# Altium schematic symbol library OnSemiconductor_Library.SchLib: 10 symbols
Pins are listed as number, name and electrical type; pins without a type are passive.

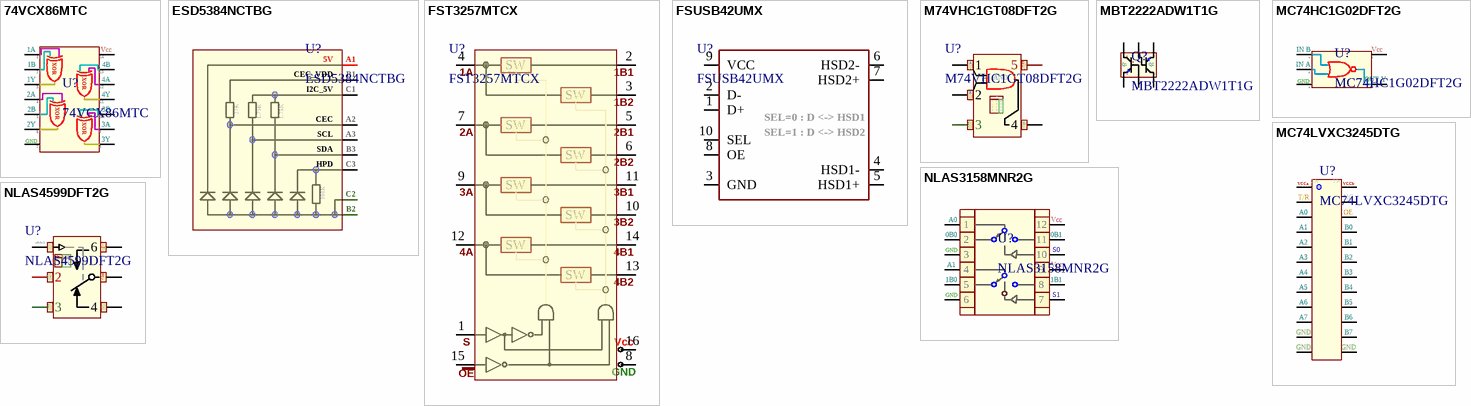
[diagram p0: symbols 74VCX86MTC to NLAS4599DFT2G]

## 74VCX86MTC
designator U?
Logic Gates Quad 2-Input OR Gate; Manufacturer: ON Semiconductor / Fairchild; Logic Family: 74VCX; Logic Type: 2-Input XOR; Number of Gates: 4 Gate; Number of Input Lines: 2 Input; Number of Output Lines: 1 Output; High Level Output Current: - 24 mA; Logic Function: XOR; Low Level Output Current: 24 mA; Operating Supply Voltage: 1.8 V, 2.5 V, 3.3 V; Propagation Delay Time: 7.8 ns; Supply Voltage - Max: 3.6 V; Supply Voltage - Min: 1.2 V; Supplier 1: Mouser; Manufacturer Part Number: 74VCX86MTC; RoHS: RoHS Compliant; Category: Logic Gates; Stock 1: 4884; Pricing 1: 1=0.512, 10=0.418, 100=0.255, 1000=0.197, 2500=0.168, 10000=0.157, 25000=0.150 (USD); Function: Gate; Height: 0.9 mm; Length: 5 mm; Package / Case: TSSOP-14; Packaging: Tube; Product: Single-Function Gate; Series: 74VCX86; Width: 4.4 mm; Brand: ON Semiconductor / Fairchild; Mounting Style: SMD/SMT; Maximum Operating Temperature: + 85 C; Minimum Operating Temperature: - 40 C; Standard Pack Qty: 94; RoHS - Mouser: Y; Minimum Order Quantity: 1; Reeling: False; ComponentLink1URL: http://www.mouser.com/ds/2/308/74VCX86-1118481.pdf; ComponentLink1Description: http://www.mouser.com/ds/2/308/74VCX86-1118481.pdf
pins: 1, 2, 3, 4, 5, 6, 7, 8, 9, 10, 11, 12, 13, 14
text: 1A; Vcc; 1B; 4B; 1Y; 4A; 2A; 4Y; 2B; 3B; 2Y; 3A; 3Y; GND

## ESD5384NCTBG
designator U?
TVS DIODE 3VWM 9WLCSP; Manufacturer: ON Semiconductor; Capacitance: 29pF; Direction: Unidirectional; Number of Unidirectional Channels: 5; Reverse Standoff Voltage: 3V; Min Breakdown Voltage: 6V; Power Line Protection: No; ESD Protection: Yes; Max Reverse Leakage Current: 200nA; Supplier 1: Mouser; Manufacturer Part Number: ESD5384NCTBG; Stock 1: 9540; Pricing 1: 1=0.44, 10=0.362, 50=0.362, 100=0.221, 1000=0.171, 10000=0.136 (USD); Number of Pins: 9; Min Operating Temperature: -30°C; Max Operating Temperature: 85°C; Package Quantity: 5000; Packaging: Tape and Reel; Number of Lines: 5; Length: 1.14mm; Height: 0.63mm; Width: 1.14mm; Depth: 1.14mm; Radiation Hardening: No; Lead Free: Lead Free; Halogen Free: Halogen Free; ComponentLink1URL: https://datasheet.ciiva.com/11195/esd5384-d-11195286.pdf; ComponentLink1Description: https://datasheet.ciiva.com/11195/esd5384-d-11195286.pdf; ComponentLink2URL: https://datasheet.ciiva.com/12545/esd5384-d-119513-12545067.pdf; ComponentLink2Description: https://datasheet.ciiva.com/12545/esd5384-d-119513-12545067.pdf; ComponentLink3URL: https://datasheet.ciiva.com/354/esd5384-d-354168.pdf; ComponentLink3Description: https://datasheet.ciiva.com/354/esd5384-d-354168.pdf
footprint ONSemi CSP-9
pins: A1, A2, A3, B1, B2, B3, C1, C2, C3
text: 5V; CEC_VDD; I2C_5V; 27K; 1.75K; CEC; SCL; SDA; HPD; 100K

## FST3257MTCX
designator U?
MUX/DEMUX QUAD 2:1 TTL 16TSSOP; Manufacturer: ON Semiconductor / Fairchild; Max Supply Voltage: 5.5V; Min Supply Voltage: 3V; Logic Function: Multiplexer,Demultiplexer,Mux,Demux; Propagation Delay: 9.9ns; Number of Input Lines: 8; Number of Output Lines: 4; Number of Elements: 1; Quiescent Current: 3uA; Supply Type: Single; Throw Configuration: SPDT; Supplier 1: Mouser; Manufacturer Part Number: FST3257MTCX; Stock 1: 3360; Pricing 1: 1=0.79, 10=0.651, 50=0.651, 100=0.42, 1000=0.336, 10000=0.273 (USD); Mount: Surface Mount; Case/Package: TSSOP; Number of Pins: 16; Weight: 0.173g; Min Operating Temperature: -40°C; Max Operating Temperature: 85°C; Packaging: Tape and Reel; Package Quantity: 1; Number of Inputs: 8; Number of Outputs: 4; Number of Bits: 8; Turn-On Delay Time: 9.9ns; Number of Circuits: 4; Independent Circuits: 1; Length: 5mm; Height: 0.9mm; Width: 4.4mm; Radiation Hardening: No; Lead Free: Lead Free; ComponentLink1URL: https://datasheet.ciiva.com/3170/fst3257-3170117.pdf; ComponentLink1Description: https://datasheet.ciiva.com/3170/fst3257-3170117.pdf; ComponentLink2URL: https://datasheet.ciiva.com/3169/fst3257-3169255.pdf; ComponentLink2Description: https://datasheet.ciiva.com/3169/fst3257-3169255.pdf; ComponentLink3URL: https://datasheet.ciiva.com/1888/fst3257-1888200.pdf; ComponentLink3Description: https://datasheet.ciiva.com/1888/fst3257-1888200.pdf; ComponentLink4URL: https://datasheet.ciiva.com/16979/fst3257-16979608.pdf; ComponentLink4Description: https://datasheet.ciiva.com/16979/fst3257-16979608.pdf; ComponentLink5URL: https://datasheet.ciiva.com/1888/fst3257-1888201.pdf; ComponentLink5Description: https://datasheet.ciiva.com/1888/fst3257-1888201.pdf; ComponentLink6URL: https://datasheet.ciiva.com/1888/fst3257-1888202.pdf; ComponentLink6Description: https://datasheet.ciiva.com/1888/fst3257-1888202.pdf; ComponentLink7URL: https://datasheet.ciiva.com/26806/getdatasheetpartid-41675-26806668.pdf; ComponentLink7Description: https://datasheet.ciiva.com/26806/getdatasheetpartid-41675-26806668.pdf
footprint TSSOP-16 ONSemi
pins: 1, 2, 3, 4, 5, 6, 7, 8, 9, 10, 11, 12, 13, 14, 15, 16
text: SW; 1A; 1B1; 1B2; 2A; 2B1; 2B2; 3A; 3B1; 3B2; 4A; 4B1; 4B2; S; Vcc; OE; GND

## FSUSB42UMX
designator U?
Analog Switch Single DPDT 10-Pin UMLP EP T/R; Manufacturer: ON Semiconductor / Fairchild; Min Supply Voltage: 3V; Max Supply Voltage: 4.3V; Nominal Supply Current: 1uA; Number of Inputs: 2; Number of Channels: 1; Data Rate: 480Mbps; Output Current: 100mA; Propagation Delay: 0.25ns; Bandwidth: 720MHz; Turn-Off Delay Time: 25ns; On-State Resistance: 6.5R; Turn-On Delay Time: 30ns; Supplier 1: Mouser; Manufacturer Part Number: FSUSB42UMX; Stock 1: 18559; Pricing 1: 1=0.57, 10=0.47, 50=0.47, 100=0.287, 1000=0.222, 10000=0.176 (USD); Mount: Surface Mount; Number of Pins: 10; Weight: 18.08g; Min Operating Temperature: -40°C; Max Operating Temperature: 85°C; Package Quantity: 1; Number of Outputs: 2; Packaging: Tape and Reel; Operating Supply Voltage: 4.3V; Number of Ports: 2; Termination: SMD/SMT; Throw Configuration: DPDT; Supply Type: Single; Length: 1.4mm; Height: 0.5mm; Width: 1.8mm; Radiation Hardening: No; REACH SVHC: No SVHC; Lead Free: Lead Free; ComponentLink1URL: https://datasheet.ciiva.com/15108/getdatasheetpartid-189033-15108996.pdf; ComponentLink1Description: https://datasheet.ciiva.com/15108/getdatasheetpartid-189033-15108996.pdf; ComponentLink2URL: https://datasheet.ciiva.com/1504/1815547-1504946.pdf; ComponentLink2Description: https://datasheet.ciiva.com/1504/1815547-1504946.pdf; ComponentLink3URL: https://datasheet.ciiva.com/26074/fsusb42-26074741.pdf; ComponentLink3Description: https://datasheet.ciiva.com/26074/fsusb42-26074741.pdf; ComponentLink4URL: https://datasheet.ciiva.com/1561/fsusb42-1561415.pdf; ComponentLink4Description: https://datasheet.ciiva.com/1561/fsusb42-1561415.pdf; ComponentLink5URL: https://datasheet.ciiva.com/3233/fsusb42-3233259.pdf; ComponentLink5Description: https://datasheet.ciiva.com/3233/fsusb42-3233259.pdf; ComponentLink6URL: https://datasheet.ciiva.com/6638/fsusb42-6638604.pdf; ComponentLink6Description: https://datasheet.ciiva.com/6638/fsusb42-6638604.pdf; ComponentLink7URL: https://datasheet.ciiva.com/6638/fsusb42-6638607.pdf; ComponentLink7Description: https://datasheet.ciiva.com/6638/fsusb42-6638607.pdf
footprint Fairchild/OnSemi - UMLP (FSUSB42)
pins: 1 D+, 2 D-, 3 GND, 4 HSD1-, 5 HSD1+, 6 HSD2-, 7 HSD2+, 8 OE, 9 VCC, 10 SEL
text: SEL=0 : D <-> HSD1; SEL=1 : D <-> HSD2

## M74VHC1GT08DFT2G
designator U?
IC GATE AND 1CH 2-INP SC-70; Manufacturer: ON Semiconductor; Number of Circuits: 1; Min Supply Voltage: 3V; Max Supply Voltage: 5.5V; Number of Inputs: 2; Propagation Delay: 7.9ns; Operating Supply Voltage: 4.25V; Quiescent Current: 1uA; High Level Output Current: -8mA; Low Level Output Current: 8mA; Turn-On Delay Time: 12.3ns; Supplier 1: Mouser; Manufacturer Part Number: M74VHC1GT08DFT2G; Stock 1: 43785; Pricing 1: 1=0.28, 10=0.187, 50=0.187, 100=0.078, 1000=0.053, 10000=0.036 (USD); Mount: Surface Mount; Case/Package: SC; Number of Pins: 70; Contact Plating: Tin,Matte; Min Operating Temperature: -55°C; Max Operating Temperature: 125°C; Packaging: Tape and Reel; Number of Gates: 1; Logic Function: AND; Package Quantity: 3000; Number of Outputs: 1; Number of Input Lines: 2; Number of Output Lines: 1; Number of Elements: 1; Radiation Hardening: No; Lead Free: Lead Free; Halogen Free: Halogen Free; ComponentLink1URL: https://datasheet.ciiva.com/8278/mc74vhc1gt08-d-8278101.pdf; ComponentLink1Description: https://datasheet.ciiva.com/8278/mc74vhc1gt08-d-8278101.pdf; ComponentLink2URL: https://datasheet.ciiva.com/1871/mc74vhc1gt08-d-1871254.pdf; ComponentLink2Description: https://datasheet.ciiva.com/1871/mc74vhc1gt08-d-1871254.pdf; ComponentLink3URL: https://datasheet.ciiva.com/1871/mc74vhc1gt08-d-1871255.pdf; ComponentLink3Description: https://datasheet.ciiva.com/1871/mc74vhc1gt08-d-1871255.pdf; ComponentLink4URL: https://datasheet.ciiva.com/16503/mc74vhc1gt08-d-16503479.pdf; ComponentLink4Description: https://datasheet.ciiva.com/16503/mc74vhc1gt08-d-16503479.pdf; ComponentLink5URL: https://datasheet.ciiva.com/1871/mc74vhc1gt08-d-1871256.pdf; ComponentLink5Description: https://datasheet.ciiva.com/1871/mc74vhc1gt08-d-1871256.pdf; ComponentLink6URL: https://datasheet.ciiva.com/26049/mc74vhc1gt08-d-26049435.pdf; ComponentLink6Description: https://datasheet.ciiva.com/26049/mc74vhc1gt08-d-26049435.pdf; ComponentLink7URL: https://datasheet.ciiva.com/16445/mc74vhc1gt08-d-16445469.pdf; ComponentLink7Description: https://datasheet.ciiva.com/16445/mc74vhc1gt08-d-16445469.pdf
footprint SC-70-5
pins: 1, 2, 3, 4, 5
text: A; Vcc; B; L; Y; H; GND

## MBT2222ADW1T1G
designator Q?
Bipolar Transistors - BJT 600mA 75V Dual NPN; Manufacturer: ON Semiconductor; Collector- Emitter Voltage VCEO Max: 40 V; Emitter- Base Voltage VEBO: 6 V; Collector-Emitter Saturation Voltage: 1 V; Continuous Collector Current: 0.6 A; DC Collector/Base Gain hfe Min: 35; Gain Bandwidth Product fT: 300 MHz; Pd - Power Dissipation: 150 mW; Supplier 1: Mouser; Manufacturer Part Number: MBT2222ADW1T1G; RoHS: RoHS Compliant; Category: Bipolar Transistors - BJT; Stock 1: 13141; Pricing 1: 1=0.221, 10=0.148, 100=0.063, 1000=0.042, 3000=0.033, 9000=0.028, 24000=0.027, 45000=0.025, 99000=0.022 (USD); Collector- Base Voltage VCBO: 75 V; Configuration: Dual; Height: 0.9 mm; Length: 2 mm; Package / Case: SC-70-6; Packaging: Cut Tape; Series: MBT2222ADW1T1; Width: 1.25 mm; Brand: ON Semiconductor; Mounting Style: SMD/SMT; Transistor Polarity: NPN; Maximum DC Collector Current: 0.6 A; Maximum Operating Temperature: + 150 C; Minimum Operating Temperature: - 55 C; Standard Pack Qty: 3000; RoHS - Mouser: Y; Minimum Order Quantity: 1; Reeling: True; ComponentLink1URL: http://www.mouser.com/ds/2/308/MBT2222ADW1T1-D-95628.pdf; ComponentLink1Description: http://www.mouser.com/ds/2/308/MBT2222ADW1T1-D-95628.pdf
footprint SC-70-6
pins: 1, 2, 3, 4, 5, 6
text: C; Q1; B; Q2; E

## MC74HC1G02DFT2G
designator U?
Logic Gates 2-6V Single 2-Input NOR; Manufacturer: ON Semiconductor; Logic Family: 74HC; Number of Gates: 1 Gate; Number of Input Lines: 2 Input; Number of Output Lines: 1 Output; High Level Output Current: - 2.6 mA; Low Level Output Current: 2.6 mA; Operating Supply Voltage: 2.5 V, 3.3 V, 5 V; Propagation Delay Time: 100 ns; Supply Voltage - Max: 6 V; Supply Voltage - Min: 2 V; Supplier 1: Mouser; Manufacturer Part Number: MC74HC1G02DFT2G; RoHS: RoHS Compliant; Category: Logic Gates; Stock 1: 13866; Pricing 1: 1=0.341, 10=0.229, 100=0.096, 1000=0.065, 3000=0.051, 9000=0.044, 24000=0.041, 45000=0.038, 99000=0.034 (USD); Function: NOR; Height: 1 mm; Length: 2.2 mm; Package / Case: SC-70; Packaging: Cut Tape; Product: Single-Function Gate; Series: MC74HC1G02; Width: 1.35 mm; Brand: ON Semiconductor; Logic Type: 2-Input NOR; Mounting Style: SMD/SMT; Logic Function: NOR; Maximum Operating Temperature: + 125 C; Minimum Operating Temperature: - 55 C; Standard Pack Qty: 3000; RoHS - Mouser: Y; Minimum Order Quantity: 1; Reeling: True; ComponentLink1URL: http://www.mouser.com/ds/2/308/MC74HC1G02-D-97291.pdf; ComponentLink1Description: http://www.mouser.com/ds/2/308/MC74HC1G02-D-97291.pdf
footprint SC-70-5
pins: 1, 2, 3, 4, 5
text: IN B; Vcc; IN A; OUT Y; GND

## MC74LVXC3245DTG
designator U?
Voltage Level Translator 24-Pin TSSOP Rail; Manufacturer: ON Semiconductor; Number of Elements: 1; Direction: Bidirectional; Max Supply Voltage: 5.5V; Min Supply Voltage: 2.3V; Operating Supply Voltage: 3.6V; Propagation Delay: 10.5ns; Number of Channels: 8; Max Power Dissipation: 200mW; Logic Function: Transceiver,Translator; Low Level Output Current: 24mA; Turn-On Delay Time: 5.5ns; Polarity: Non-Inverting; High Level Output Current: -24mA; Quiescent Current: 8uA; Supplier 1: Mouser; Manufacturer Part Number: MC74LVXC3245DTG; Stock 1: 344; Pricing 1: 1=1.57, 10=1.34, 50=1.34, 100=1.03, 1000=0.716, 10000=0.611 (USD); Mount: Surface Mount; Case/Package: TSSOP; Number of Pins: 24; Contact Plating: Gold; Min Operating Temperature: -40°C; Max Operating Temperature: 85°C; Packaging: Rail/Tube; Package Quantity: 62; Number of Bits: 8; Number of Circuits: 8; Output Type: Voltage; Length: 7.9mm; Height: 1.05mm; Width: 4.5mm; Radiation Hardening: No; REACH SVHC: No SVHC; Lead Free: Lead Free; Halogen Free: Halogen Free; ComponentLink1URL: https://datasheet.ciiva.com/15086/getdatasheetpartid-53399-15086081.pdf; ComponentLink1Description: https://datasheet.ciiva.com/15086/getdatasheetpartid-53399-15086081.pdf; ComponentLink2URL: https://datasheet.ciiva.com/25971/mc74lvxc3245-d-25971099.pdf; ComponentLink2Description: https://datasheet.ciiva.com/25971/mc74lvxc3245-d-25971099.pdf; ComponentLink3URL: https://datasheet.ciiva.com/16343/mc74lvxc3245-d-16343309.pdf; ComponentLink3Description: https://datasheet.ciiva.com/16343/mc74lvxc3245-d-16343309.pdf; ComponentLink4URL: https://datasheet.ciiva.com/8257/mc74lvxc3245-d-8257919.pdf; ComponentLink4Description: https://datasheet.ciiva.com/8257/mc74lvxc3245-d-8257919.pdf
footprint SOP65P640X120-24N
pins: 1, 2, 3, 4, 5, 6, 7, 8, 9, 10, 11, 12, 13, 14, 15, 16, 17, 18, 19, 20, 21, 22, 23, 24
text: 3.3v; 5.5v; VCCa; VCCb; T/R; NC; A0; OE; A1; B0; A2; B1; A3; B2; A4; B3; A5; B4; A6; B5; A7; B6; GND; B7

## NLAS3158MNR2G
designator U?
Analog Switch ICs Dual SPDT ANLG Sw. -55 to 125deg C; Manufacturer: ON Semiconductor; Configuration: 2 x SPDT; Supply Type: Single Supply; Off Time - Max: 3.5 ns; On Resistance - Max: 25 Ohms; On Time - Max: 5.2 ns; Supply Current - Max: 1 uA; Number of Switches: 2 Switch; Operating Supply Voltage: 1.65 V to 5.5 V; Pd - Power Dissipation: 180 mW; Supply Voltage - Max: 5.5 V; Supply Voltage - Min: 1.65 V; Switch Voltage - Max: 4.5 V; Supplier 1: Mouser; Manufacturer Part Number: NLAS3158MNR2G; RoHS: RoHS Compliant; Category: Analog Switch ICs; Stock 1: 4321; Pricing 1: 1=0.582, 10=0.484, 100=0.312, 1000=0.250, 3000=0.211, 9000=0.203 (USD); Height: 0.9 mm (Max); Length: 3 mm; Package / Case: DFN-12; Packaging: Cut Tape; Series: NLAS3158; Width: 1 mm; Brand: ON Semiconductor; Mounting Style: SMD/SMT; Maximum Operating Temperature: + 125 C; Minimum Operating Temperature: - 55 C; Standard Pack Qty: 3000; RoHS - Mouser: Y; Minimum Order Quantity: 1; Reeling: True; ComponentLink1URL: http://www.mouser.com/ds/2/308/NLAS3158-D-1142024.pdf; ComponentLink1Description: http://www.mouser.com/ds/2/308/NLAS3158-D-1142024.pdf
footprint SON45P300X300X80-13N
pins: 1, 2, 3, 4, 5, 6, 7, 8, 9, 10, 11, 12
text: A0; Vcc; 0B0; 0B1; GND; S0; A1; 1B0; 1B1; S1

## NLAS4599DFT2G
designator U?
Analog Switch Single SPDT 6-Pin SC-88 T/R; Manufacturer: ON Semiconductor; Number of Channels: 1; Bandwidth: 200MHz; Min Supply Voltage: 2V; Max Supply Voltage: 5.5V; Number of Outputs: 2; Max Power Dissipation: 200mW; On-State Resistance: 30R; Operating Supply Current: 1uA; Turn-On Delay Time: 28ns; Turn-Off Delay Time: 12ns; Polarity: Non-Inverting; High Level Output Current: 50mA; Supplier 1: Mouser; Manufacturer Part Number: NLAS4599DFT2G; Stock 1: 15618; Pricing 1: 1=0.41, 10=0.306, 50=0.306, 100=0.166, 1000=0.125, 10000=0.101 (USD); Case/Package: SC; Number of Pins: 6; Contact Plating: Tin,Matte; Min Operating Temperature: -55°C; Max Operating Temperature: 125°C; Packaging: Tape and Reel; Throw Configuration: SPDT; Number of Bits: 1; Number of Inputs: 1; Package Quantity: 1; Power Dissipation: 200mW; Supply Type: Single; Nominal Supply Current: 1uA; Low Level Output Current: 50mA; Length: 2.2mm; Height: 1mm; Width: 1.35mm; Radiation Hardening: No; REACH SVHC: No SVHC; Lead Free: Lead Free; Halogen Free: Halogen Free; ComponentLink1URL: https://datasheet.ciiva.com/22633/1712834-22633120.pdf; ComponentLink1Description: https://datasheet.ciiva.com/22633/1712834-22633120.pdf; ComponentLink2URL: https://datasheet.ciiva.com/2980/nlas4599-d-2980327.pdf; ComponentLink2Description: https://datasheet.ciiva.com/2980/nlas4599-d-2980327.pdf; ComponentLink3URL: https://datasheet.ciiva.com/16208/nlas4599-d-16208791.pdf; ComponentLink3Description: https://datasheet.ciiva.com/16208/nlas4599-d-16208791.pdf; ComponentLink4URL: https://datasheet.ciiva.com/6638/nlas4599-d-6638461.pdf; ComponentLink4Description: https://datasheet.ciiva.com/6638/nlas4599-d-6638461.pdf; ComponentLink5URL: https://datasheet.ciiva.com/2979/nlas4599-d-2979967.pdf; ComponentLink5Description: https://datasheet.ciiva.com/2979/nlas4599-d-2979967.pdf; ComponentLink6URL: https://datasheet.ciiva.com/6638/nlas4599-d-6638463.pdf; ComponentLink6Description: https://datasheet.ciiva.com/6638/nlas4599-d-6638463.pdf
footprint SC-70-6
pins: 1, 2, 3, 4, 5, 6
text: SELECT; NO; Select; On Channel; L; H; NC; V+; COM; GND